# EAGLE library part MAX14853_14855 (library SKAARHOJ)
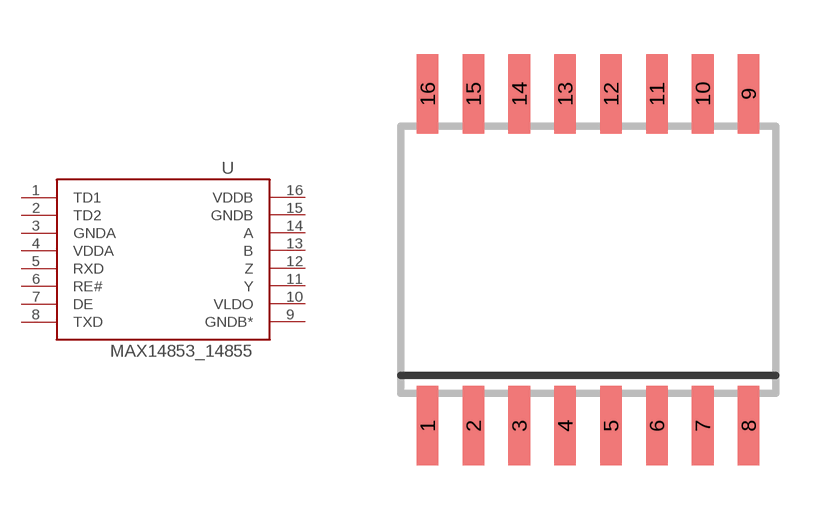
[diagram p64: symbol with the pads of SO-16W; footprint SO-16W]

Designator prefix -

## MAX14853_14855  [SO-16W]
1  TD1  out
2  TD2  out
3  GNDA  pwr
4  VDDA  pwr
5  RXD  out
6  RE#  in
7  DE  in
8  TXD  in
9  GNDB*  pwr
10  VLDO  pwr
11  Y  out
12  Z  out
13  B  in
14  A  in
15  GNDB  pwr
16  VDDB  out

## Footprint SO-16W (pad centres in mm)
16-Lead (Wide Body) Small Outline Package (R-16) Source: http://www.analog.com/UploadedFiles/Data_Sheets/409317160AD421_c.pdf
smd 0.6 x 2.2: 1 -4.445,-4.6; 2 -3.175,-4.6; 3 -1.905,-4.6; 4 -0.635,-4.6; 5 0.635,-4.6; 6 1.905,-4.6; 7 3.175,-4.6; 8 4.445,-4.6; 9 4.445,4.6; 10 3.175,4.6; 11 1.905,4.6; 12 0.635,4.6; 13 -0.635,4.6; 14 -1.905,4.6; 15 -3.175,4.6; 16 -4.445,4.6